# Altium footprint library USB Charger Project.PcbLib: 24 footprints (part 1 of 2)
Each footprint in its own frame and in the unit in brackets; x right, y up, seen from the top. Pads: shape width x height; smd on the part's side, far side on the other; paste and mask are expansions set on the pad; w line width, h text height; cw(c..) or ccw(c..) is an arc to the next point about the centre after c.
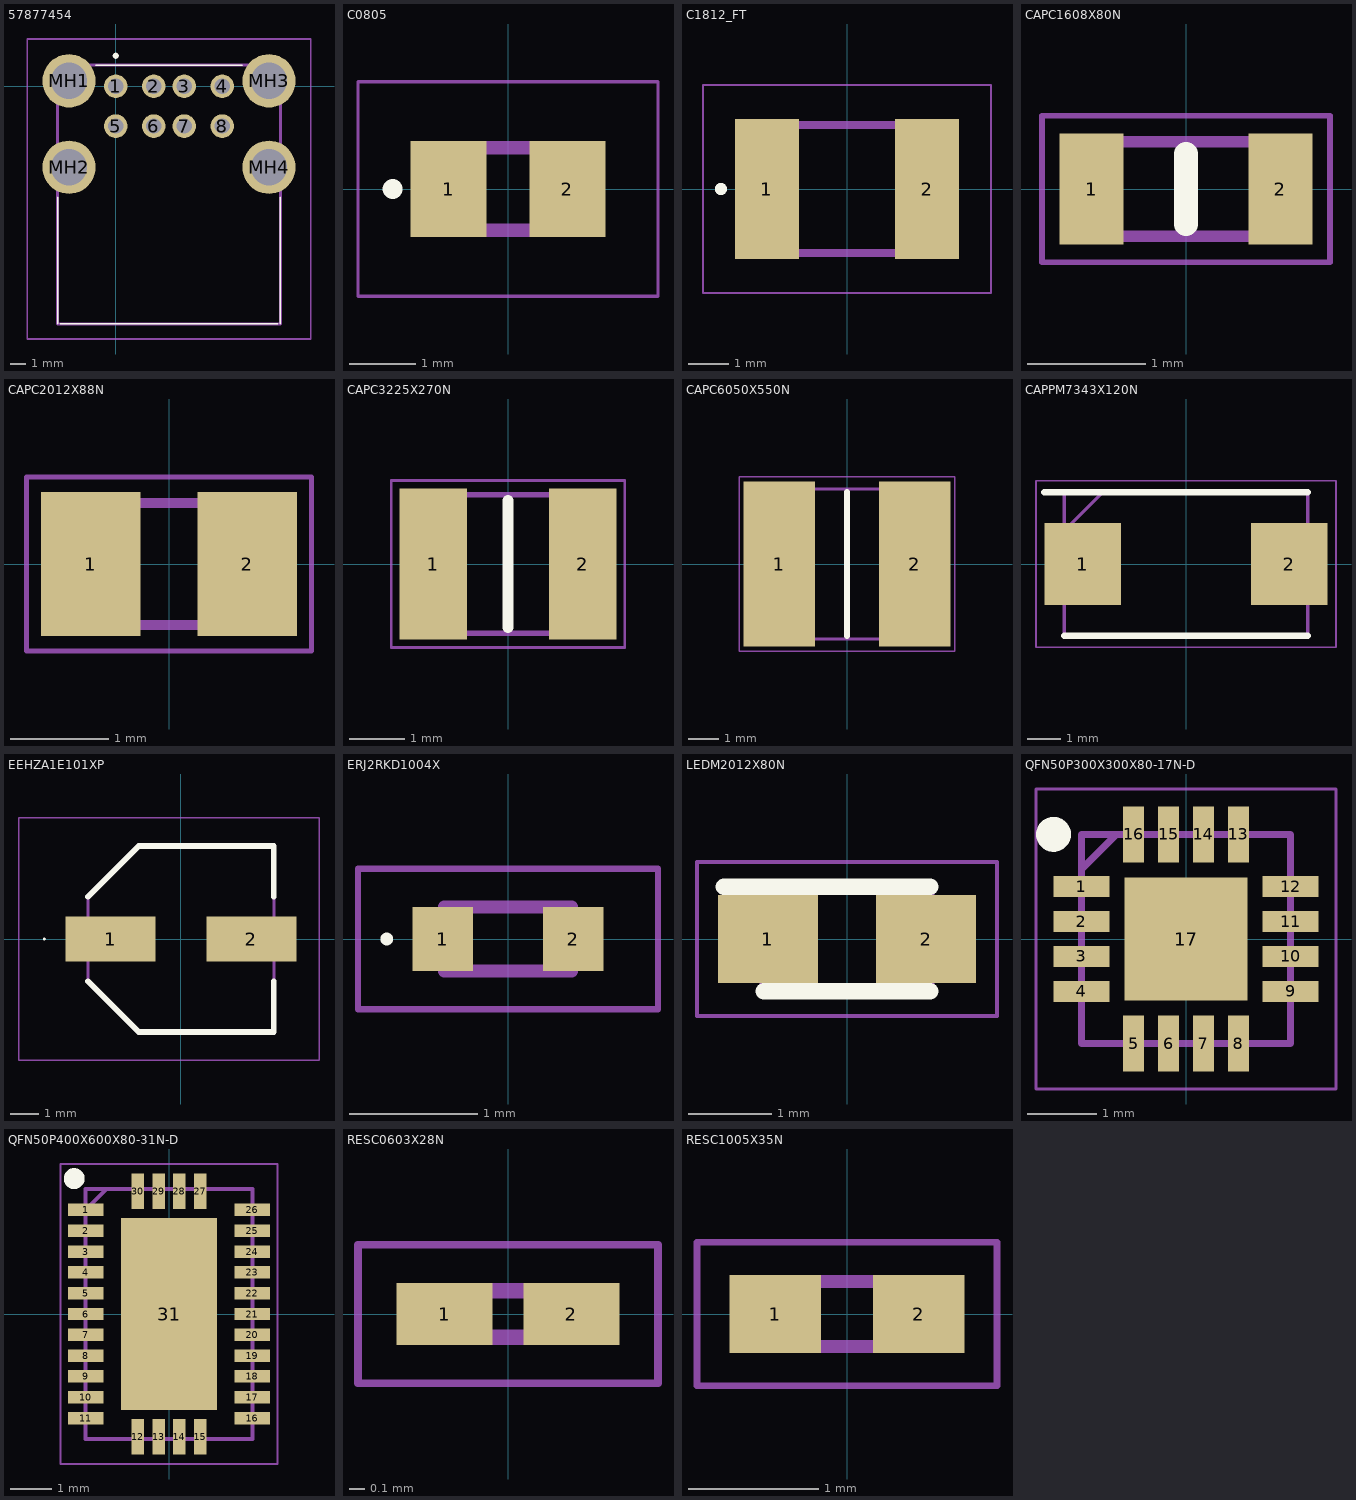
[diagram p0: the footprints below, top view; thin cyan lines are the x and y axes]

## 57877454 [mm]
pads (12):
  round 1.55 hole 1: 1(0,0) 2(2.5,0) 3(4.5,0) 4(7,0) 5(0,-2.62) 6(2.5,-2.62) 7(4.5,-2.62) 8(7,-2.62)
  round 3.5 hole 2.38: MH1(-3.07,0.35) MH2(-3.07,-5.33) MH3(10.07,0.35) MH4(10.07,-5.33)
Top Overlay:
  lines w0.1: -3.815,-15.61 -3.815,-7.31 ; -3.635,-15.61 10.635,-15.61 ; -1.3,1.39 8.3,1.39 ; 10.815,-15.61 10.815,-7.31
  lines w0.2: -0.1,2 ccw(c0,2) 0.1,2 ccw(c0,2) -0.1,2
Mechanical 13:
  lines w0.2: -3.815,-15.61 10.815,-15.61 10.815,1.39 -3.815,1.39 -3.815,-15.61
Mechanical 15:
  lines w0.1: -5.82,-16.61 12.82,-16.61 12.82,3.1 -5.82,3.1 -5.82,-16.61
3D body "5787745-4.stp": height 15.97, standoff -4.27, extent -4.509,-16 11.729,1.68

## C0805 [mm]
pads (2):
  rect 1.15x1.45 smd: 1(-0.9,0) 2(0.9,0)
Top Overlay:
  circle w0.2: c-1.75,0 r0.05
Mechanical 13:
  lines w0.2: -1,-0.625 -1,0.625 1,0.625 1,-0.625 -1,-0.625
Mechanical 15:
  lines w0.05: -2.275,-1.625 -2.275,1.625 2.275,1.625 2.275,-1.625 -2.275,-1.625
3D body "C0805X104K5RAC3316.stp": height 0.98, standoff 0, extent -1.15,-0.78 1.15,0.77

## C1812_FT [mm]
pads (2):
  rect 1.6x3.5 smd: 1(-2,0) 2(2,0)
Top Overlay:
  circle w0.2: c-3.15,0 r0.05
Mechanical 13:
  lines w0.2: -2.25,-1.6 -2.25,1.6 2.25,1.6 2.25,-1.6 -2.25,-1.6
Mechanical 15:
  lines w0.05: -3.6,-2.6 -3.6,2.6 3.6,2.6 3.6,-2.6 -3.6,-2.6
3D body "C1812W104KDRACTU.stp": height 1.85, standoff 0, extent -2.45,-1.75 2.45,1.75

## CAPC1608X80N [mm]
pads (2):
  rect 0.54x0.94 smd: 1(-0.8,0) 2(0.8,0)
Top Overlay:
  lines w0.2: 0,-0.3 0,0.3
Mechanical 13:
  lines w0.1: -0.8,-0.4 -0.8,0.4 0.8,0.4 0.8,-0.4 -0.8,-0.4
Mechanical 15:
  lines w0.05: -1.22,-0.62 -1.22,0.62 1.22,0.62 1.22,-0.62 -1.22,-0.62
3D body "C1608X7R0J225K080AB.stp": height 0.8, standoff 0, extent -0.8,-0.4 0.8,0.4

## CAPC2012X88N [mm]
pads (2):
  rect 1.02x1.47 smd: 1(-0.8,0) 2(0.8,0)
Mechanical 13:
  lines w0.1: -1,-0.625 -1,0.625 1,0.625 1,-0.625 -1,-0.625
Mechanical 15:
  lines w0.05: -1.46,-0.89 -1.46,0.89 1.46,0.89 1.46,-0.89 -1.46,-0.89
3D body "C0805C223K5RAC-TU.stp": height 0.88, standoff 0, extent -1.1,-0.73 1.1,0.72

## CAPC3225X270N [mm]
pads (2):
  rect 1.22x2.72 smd: 1(-1.35,0) 2(1.35,0)
Top Overlay:
  lines w0.2: 0,-1.15 0,1.15
Mechanical 13:
  lines w0.1: -1.6,-1.25 -1.6,1.25 1.6,1.25 1.6,-1.25 -1.6,-1.25
Mechanical 15:
  lines w0.05: -2.11,-1.51 -2.11,1.51 2.11,1.51 2.11,-1.51 -2.11,-1.51
3D body "JMK325B7476KMHPR.stp": height 2.7, standoff 0, extent -1.6,-1.25 1.6,1.25

## CAPC6050X550N [mm]
pads (2):
  rect 2.39x5.51 smd: 1(-2.26,0) 2(2.26,0)
Top Overlay:
  lines w0.2: 0,-2.4 0,2.4
Mechanical 13:
  lines w0.1: -3,-2.5 -3,2.5 3,2.5 3,-2.5 -3,-2.5
Mechanical 15:
  lines w0.05: -3.605,-2.91 -3.605,2.91 3.605,2.91 3.605,-2.91 -3.605,-2.91
3D body "CKG57NX7R2J474M500JH.stp": height 5.5, standoff 0, extent -3,-2.5 3,2.5

## CAPPM7343X120N [mm]
pads (2):
  rect 2.3x2.45 smd: 1(-3.1,0) 2(3.1,0)
Top Overlay:
  lines w0.2: -4.25,2.15 3.65,2.15 ; -3.65,-2.15 3.65,-2.15
Mechanical 13:
  lines w0.1: -3.65,1 -2.5,2.15 ; -3.65,-2.15 -3.65,2.15 3.65,2.15 3.65,-2.15 -3.65,-2.15
Mechanical 15:
  lines w0.05: -4.5,-2.5 -4.5,2.5 4.5,2.5 4.5,-2.5 -4.5,-2.5
3D body "EEF-CS1E100R.stp": height 1.2, standoff 0, extent -3.65,-2.15 3.65,2.15

## EEHZA1E101XP [mm]
pads (2):
  rect 3.2x1.6 smd: 1(-2.5,0) 2(2.5,0)
Top Overlay:
  lines w0.05: -4.875,0 cw(c-4.85,0) -4.825,0 cw(c-4.85,0) -4.875,0
  lines w0.2: -3.3,-1.5 -1.5,-3.3 3.3,-3.3 3.3,-1.5 ; -3.3,1.5 -1.5,3.3 3.3,3.3 3.3,1.5
Mechanical 13:
  lines w0.1: -3.3,1.5 -1.5,3.3 ; -3.3,1.5 -3.3,-1.5 -1.5,-3.3 3.3,-3.3 3.3,3.3 -1.5,3.3 ; -3.3,1.5 -1.5,3.3
Mechanical 15:
  lines w0.05: -5.75,-4.3 -5.75,4.3 4.9,4.3 4.9,-4.3 -5.75,-4.3
3D body "EEH-ZC1V470P.stp": height 7.7, standoff 0, extent -3.65,-3.3 3.65,3.3

## ERJ2RKD1004X [mm]
pads (2):
  rect 0.475x0.5 smd: 1(-0.512,0) 2(0.512,0)
Top Overlay:
  lines w0.05: -0.95,-0.025 ccw(c-0.95,0) -0.95,0.025 ccw(c-0.95,0) -0.95,-0.025
Mechanical 13:
  lines w0.1: -0.5,-0.25 -0.5,0.25 0.5,0.25 0.5,-0.25 -0.5,-0.25
Mechanical 15:
  lines w0.05: -1.175,-0.55 -1.175,0.55 1.175,0.55 1.175,-0.55 -1.175,-0.55
3D body "ERJ-2GEJ3R0X.stp": height 0.35, standoff 0, extent -0.5,-0.25 0.5,0.25

## LEDM2012X80N [mm]
pads (2):
  rect 1.2x1.05 smd: 1(-0.95,0) 2(0.95,0)
Top Overlay:
  lines w0.2: -1.475,0.625 1,0.625 ; -1,-0.625 1,-0.625
Mechanical 13:
  lines w0.1: -1,0.1 -0.475,0.625 ; -1,-0.625 -1,0.625 1,0.625 1,-0.625 -1,-0.625
Mechanical 15:
  lines w0.05: -1.8,-0.925 -1.8,0.925 1.8,0.925 1.8,-0.925 -1.8,-0.925
3D body "150080GS75000.stp": height 0.7, standoff 0, extent -1,-0.625 1,0.625

## PCBComponent_1 [mm]

## QFN50P300X300X80-17N-D [mm]
pads (17):
  rect 0.8x0.3 smd: 1(-1.5,0.75) 2(-1.5,0.25) 3(-1.5,-0.25) 4(-1.5,-0.75) 9(1.5,-0.75) 10(1.5,-0.25) 11(1.5,0.25) 12(1.5,0.75)
  rect 0.3x0.8 smd: 5(-0.75,-1.5) 6(-0.25,-1.5) 7(0.25,-1.5) 8(0.75,-1.5) 13(0.75,1.5) 14(0.25,1.5) 15(-0.25,1.5) 16(-0.75,1.5)
  rect 1.76x1.76 smd: 17(0,0)
Top Overlay:
  circle w0.25: c-1.9,1.5 r0.125
Mechanical 13:
  lines w0.1: -1.5,1 -1,1.5 ; -1.5,-1.5 -1.5,1.5 1.5,1.5 1.5,-1.5 -1.5,-1.5
Mechanical 15:
  lines w0.05: -2.15,-2.15 -2.15,2.15 2.15,2.15 2.15,-2.15 -2.15,-2.15
3D body "TPS2549IRTERQ1.stp": height 0.8, standoff 0, extent -1.5,-1.5 1.5,1.5

## QFN50P400X600X80-31N-D [mm]
pads (31):
  rect 0.85x0.3 smd: 1(-2,2.5) 2(-2,2) 3(-2,1.5) 4(-2,1) 5(-2,0.5) 6(-2,0) 7(-2,-0.5) 8(-2,-1) 9(-2,-1.5) 10(-2,-2) 11(-2,-2.5) 16(2,-2.5) 17(2,-2) 18(2,-1.5) 19(2,-1) 20(2,-0.5) 21(2,0) 22(2,0.5) 23(2,1) 24(2,1.5) 25(2,2) 26(2,2.5)
  rect 0.3x0.85 smd: 12(-0.75,-2.95) 13(-0.25,-2.95) 14(0.25,-2.95) 15(0.75,-2.95) 27(0.75,2.95) 28(0.25,2.95) 29(-0.25,2.95) 30(-0.75,2.95)
  rect 2.3x4.6 smd: 31(0,0)
Top Overlay:
  circle w0.25: c-2.275,3.25 r0.125
Mechanical 13:
  lines w0.1: -2,2.5 -1.5,3 ; -2,-3 -2,3 2,3 2,-3 -2,-3
Mechanical 15:
  lines w0.05: -2.6,-3.6 -2.6,3.6 2.6,3.6 2.6,-3.6 -2.6,-3.6
3D body "LM73605RNPR.stp": height 0.8, standoff 0, extent -2,-3 2,3

## RESC0603X28N [mm]
pads (2):
  rect 0.625x0.4 smd: 1(-0.412,0) 2(0.412,0)
Mechanical 13:
  lines w0.1: -0.3,-0.15 -0.3,0.15 0.3,0.15 0.3,-0.15 -0.3,-0.15
Mechanical 15:
  lines w0.05: -0.975,-0.45 -0.975,0.45 0.975,0.45 0.975,-0.45 -0.975,-0.45
3D body "CRCW020112K1FNED.stp": height 0.28, standoff 0, extent -0.3,-0.15 0.3,0.15

## RESC1005X35N [mm]
pads (2):
  rect 0.7x0.6 smd: 1(-0.55,0) 2(0.55,0)
Mechanical 13:
  lines w0.1: -0.5,-0.25 -0.5,0.25 0.5,0.25 0.5,-0.25 -0.5,-0.25
Mechanical 15:
  lines w0.05: -1.15,-0.55 -1.15,0.55 1.15,0.55 1.15,-0.55 -1.15,-0.55
3D body "CPF0402B2K1E1.stp": height 0.35, standoff 0, extent -0.5,-0.25 0.5,0.25